# EAGLE library part IC-DRV8825 (library FirePick)
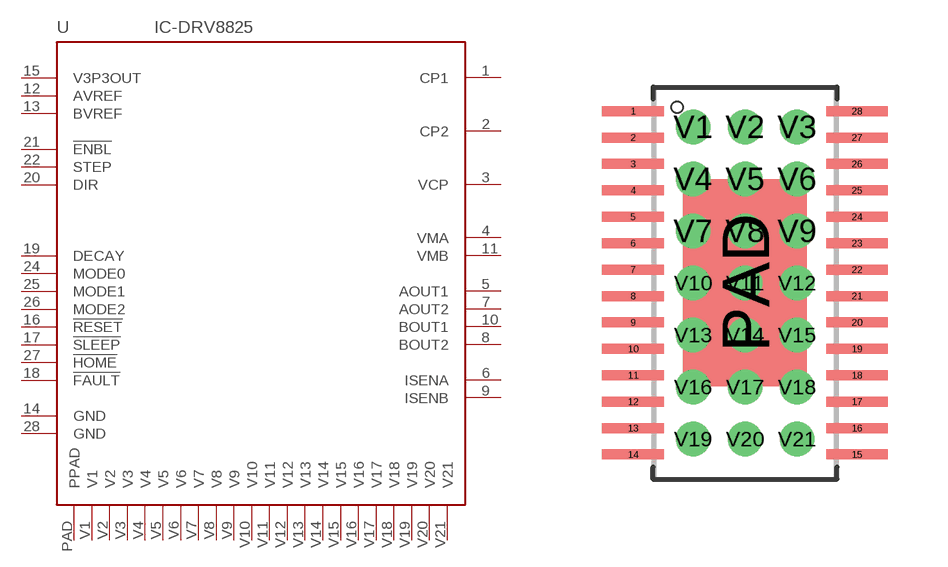
[diagram p12: symbol with the pads of TSSOP28_PAD; footprint TSSOP28_PAD]

Designator prefix -

## IC-DRV8825  [TSSOP28_PAD]
1  CP1
2  CP2
3  VCP
4  VMA
5  AOUT1
6  ISENA
7  AOUT2
8  BOUT2
9  ISENB
10  BOUT1
11  VMB
12  AVREF
13  BVREF
14  GND
15  V3P3OUT
16  !RESET
17  !SLEEP
18  !FAULT
19  DECAY
20  DIR
21  !ENBL
22  STEP
24  MODE0
25  MODE1
26  MODE2
27  !HOME
28  GND
PAD  PPAD
V1  V1
V2  V2
V3  V3
V4  V4
V5  V5
V6  V6
V7  V7
V8  V8
V9  V9
V10  V10
V11  V11
V12  V12
V13  V13
V14  V14
V15  V15
V16  V16
V17  V17
V18  V18
V19  V19
V20  V20
V21  V21

## Footprint TSSOP28_PAD (pad centres in mm)
smd 1.55 x 0.25: 1 -2.8,4.298; 2 -2.8,3.637; 3 -2.8,2.977; 4 -2.8,2.317; 5 -2.8,1.656; 6 -2.8,0.996; 7 -2.8,0.335; 8 -2.8,-0.325; 9 -2.8,-0.985; 10 -2.8,-1.646; 11 -2.8,-2.306; 12 -2.8,-2.967; 13 -2.8,-3.627; 14 -2.8,-4.287; 15 2.8,-4.287; 16 2.8,-3.627; 17 2.8,-2.967; 18 2.8,-2.306; 19 2.8,-1.646; 20 2.8,-0.985; 21 2.8,-0.325; 22 2.8,0.335; 23 2.8,0.996; 24 2.8,1.656; 25 2.8,2.317; 26 2.8,2.977; 27 2.8,3.637; 28 2.8,4.298
smd 3.1 x 5.18: PAD 0,0.005
drill 0.35 pad 0.6: V1 -1.3,3.9; V2 0,3.9; V3 1.3,3.9; V4 -1.3,2.6; V5 0,2.6; V6 1.3,2.6; V7 -1.3,1.3; V8 0,1.3; V9 1.3,1.3; V10 -1.3,0; V11 0,0; V12 1.3,0; V13 -1.3,-1.3; V14 0,-1.3; V15 1.3,-1.3; V16 -1.3,-2.6; V17 0,-2.6; V18 1.3,-2.6; V19 -1.3,-3.9; V20 0,-3.9; V21 1.3,-3.9